# EAGLE library part CA3046 (library akihabara)
CA3046 General purpose monolithic transistor array
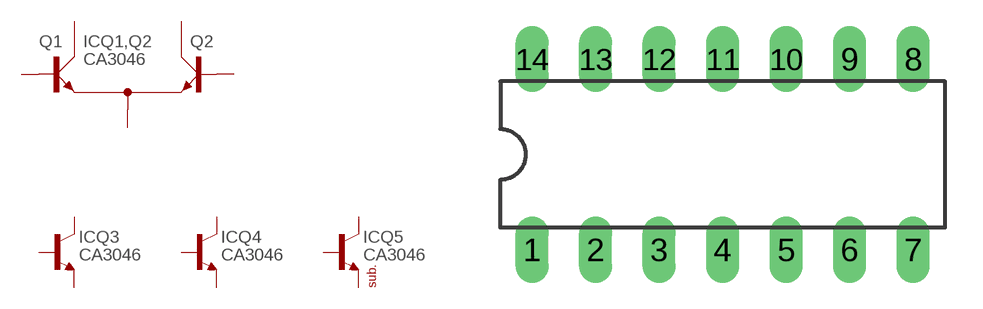
[diagram p3: symbol with the pads of DIL14; footprint DIL14]

Designator prefix IC; gates Q1,Q2=CA3046-A Q3=CA3046-B Q4=CA3046-B Q5=CA3046-C

## CA3046P  [DIL14]
1  Q1,Q2:C1  pas
2  Q1,Q2:B1  pas
3  Q1,Q2:E  pas
4  Q1,Q2:B2  pas
5  Q1,Q2:C2  pas
6  Q3:B  pas
7  Q3:E  pas
8  Q3:C  pas
9  Q4:B  pas
10  Q4:E  pas
11  Q4:C  pas
12  Q5:B  pas
13  Q5:E  pas
14  Q5:C  pas

## Footprint DIL14 (pad centres in mm)
Dual In Line Package
drill 0.813 long: 1 -7.62,-3.81; 2 -5.08,-3.81; 3 -2.54,-3.81; 4 0,-3.81; 5 2.54,-3.81; 6 5.08,-3.81; 7 7.62,-3.81; 8 7.62,3.81; 9 5.08,3.81; 10 2.54,3.81; 11 0,3.81; 12 -2.54,3.81; 13 -5.08,3.81; 14 -7.62,3.81